# Altium footprint library Footprint-Lib-ABahlmann-IC.PcbLib: 79 footprints (part 2 of 5)
Each footprint in its own frame and in the unit in brackets; x right, y up, seen from the top. Pads: shape width x height; smd on the part's side, far side on the other; paste and mask are expansions set on the pad; w line width, h text height; cw(c..) or ccw(c..) is an arc to the next point about the centre after c.
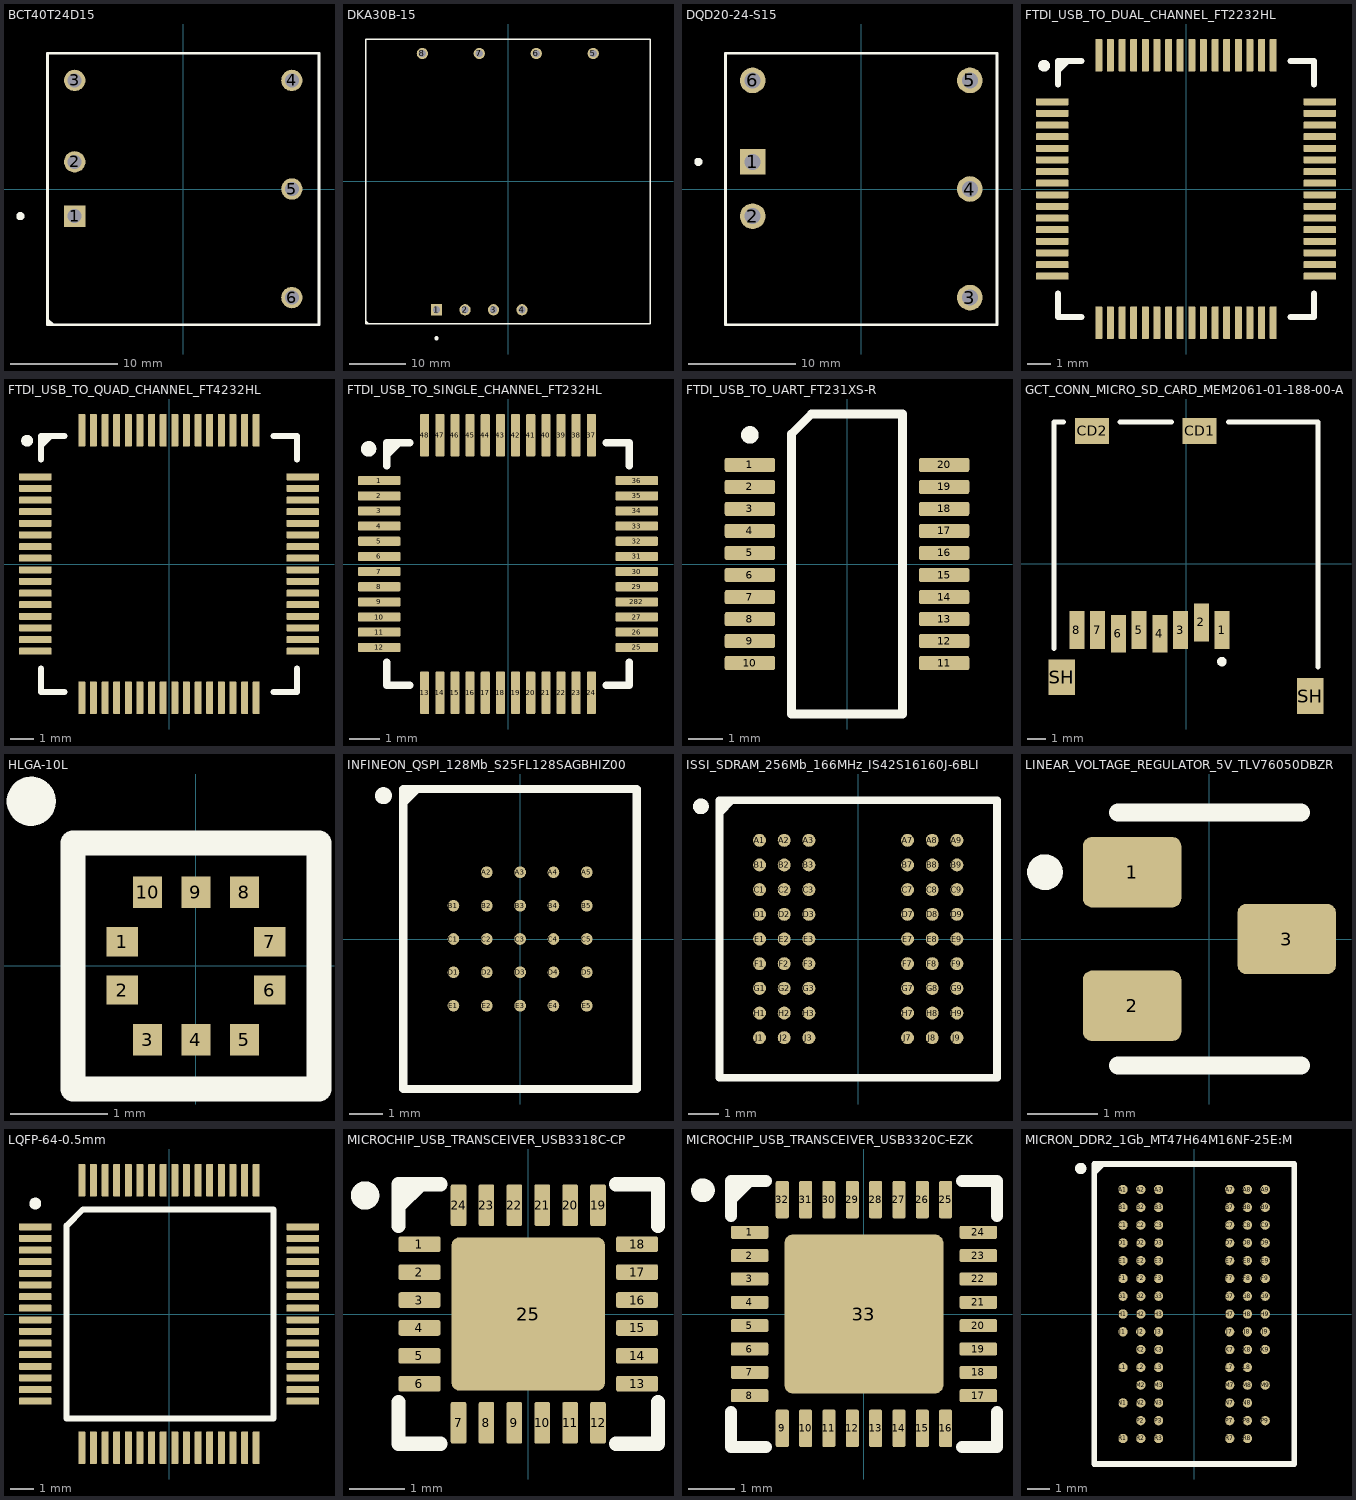
[diagram p1: the footprints below, top view; thin cyan lines are the x and y axes]

## BCT40T24D15 [mm] "Isolated Module DC DC Converter 2 Output 15V -15V 1.33A, 1.33A 9V - 36V Input"
pads (6):
  rect 2x2 hole 1.3: 1(-10.16,-2.54)
  round 2 hole 1.3: 2(-10.16,2.54) 3(-10.16,10.16) 4(10.16,10.16) 5(10.16,0) 6(10.16,-10.16)
Top Overlay:
  circle w0.508: c-15.24,-2.54 r0.127
  lines w0.254: -12.7,-12.4 -12.4,-12.7 ; -12.7,-12.2 -12.2,-12.7 ; -12.7,-12.7 12.7,-12.7 12.7,12.7 -12.7,12.7 -12.7,-12.7
3D body "BCT40T.STEP": height 10.01, standoff -5.59, extent -12.7,-12.7 12.7,12.7

## DKA30B-15 [mm] "Isolated Module DC DC Converter 2 Output 15V -15V 1A, 1A 18V - 36V Input"
pads (8):
  rect 2x2 hole 1.3: 1(-12.74,-22.9)
  round 2 hole 1.3: 2(-7.66,-22.9) 3(-2.58,-22.9) 4(2.5,-22.9) 5(15.2,22.82) 6(5.04,22.82) 7(-5.12,22.82) 8(-15.28,22.82)
Top Overlay:
  circle w0.508: c-12.74,-27.98 r0.127
  lines w0.254: -25.4,-25.1 -25.1,-25.4 ; -25.4,-24.9 -24.9,-25.4 ; -25.4,-25.4 25.4,-25.4 25.4,25.4 -25.4,25.4 -25.4,-25.4
3D body "DKA30B-15.stp": height 21.01, standoff -5.79, extent -25.4,-25.4 25.4,25.4

## DQD20-24-S15 [mm] "Isolated Module DC DC Converter 1 Output 15V 1.333A 9V - 36V Input"
pads (6):
  rect 2.4x2.4 hole 1.5: 1(-10.16,2.54)
  round 2.4 hole 1.5: 2(-10.16,-2.54) 3(10.16,-10.16) 4(10.16,0) 5(10.16,10.16) 6(-10.16,10.16)
Top Overlay:
  circle w0.508: c-15.24,2.54 r0.127
  lines w0.254: -12.7,-12.7 -12.7,12.7 12.7,12.7 12.7,-12.7 -12.7,-12.7
3D body "DQD20-24-S15.stp": height 12.51, standoff -4.08, extent -12.7,-12.7 12.7,12.7

## FTDI_USB_TO_DUAL_CHANNEL_FT2232HL [mm] "USB Bridge, USB to UART,FIFO USB 2.0 UART Interface 64-LQFP (10x10)"
pads (64):
  rrect25% 1.4x0.3 smd mask+0.05: 1(-5.75,3.75) 2(-5.75,3.25) 3(-5.75,2.75) 4(-5.75,2.25) 5(-5.75,1.75) 6(-5.75,1.25) 7(-5.75,0.75) 8(-5.75,0.25) 9(-5.75,-0.25) 10(-5.75,-0.75) 11(-5.75,-1.25) 12(-5.75,-1.75) 13(-5.75,-2.25) 14(-5.75,-2.75) 15(-5.75,-3.25) 16(-5.75,-3.75) 33(5.75,-3.75) 34(5.75,-3.25) 35(5.75,-2.75) 36(5.75,-2.25) 37(5.75,-1.75) 38(5.75,-1.25) 39(5.75,-0.75) 40(5.75,-0.25) 41(5.75,0.25) 42(5.75,0.75) 43(5.75,1.25) 44(5.75,1.75) 45(5.75,2.25) 46(5.75,2.75) 47(5.75,3.25) 48(5.75,3.75)
  rrect25% 0.3x1.4 smd mask+0.05: 17(-3.75,-5.75) 18(-3.25,-5.75) 19(-2.75,-5.75) 20(-2.25,-5.75) 21(-1.75,-5.75) 22(-1.25,-5.75) 23(-0.75,-5.75) 24(-0.25,-5.75) 25(0.25,-5.75) 26(0.75,-5.75) 27(1.25,-5.75) 28(1.75,-5.75) 29(2.25,-5.75) 30(2.75,-5.75) 31(3.25,-5.75) 32(3.75,-5.75) 49(3.75,5.75) 50(3.25,5.75) 51(2.75,5.75) 52(2.25,5.75) 53(1.75,5.75) 54(1.25,5.75) 55(0.75,5.75) 56(0.25,5.75) 57(-0.25,5.75) 58(-0.75,5.75) 59(-1.25,5.75) 60(-1.75,5.75) 61(-2.25,5.75) 62(-2.75,5.75) 63(-3.25,5.75) 64(-3.75,5.75)
Top Overlay:
  circle w0.254: c-6.1,5.3 r0.127
  lines w0.254: -5.5,-4.5 -5.5,-5.5 -4.5,-5.5 ; -5.5,4.5 -5.5,5.5 -4.5,5.5 ; -5.5,5.1 -5.1,5.5 ; 4.5,-5.5 5.5,-5.5 5.5,-4.5 ; 4.5,5.5 5.5,5.5 5.5,4.5
3D body "FT2232HL-TRAY.stp": height 1.6, standoff 0, extent -6,-6 6,6

## FTDI_USB_TO_QUAD_CHANNEL_FT4232HL [mm] "USB Bridge, USB to UART USB 2.0 UART Interface 64-LQFP (10x10)"
pads (64):
  rrect25% 1.4x0.3 smd mask+0.05: 1(-5.75,3.75) 2(-5.75,3.25) 3(-5.75,2.75) 4(-5.75,2.25) 5(-5.75,1.75) 6(-5.75,1.25) 7(-5.75,0.75) 8(-5.75,0.25) 9(-5.75,-0.25) 10(-5.75,-0.75) 11(-5.75,-1.25) 12(-5.75,-1.75) 13(-5.75,-2.25) 14(-5.75,-2.75) 15(-5.75,-3.25) 16(-5.75,-3.75) 33(5.75,-3.75) 34(5.75,-3.25) 35(5.75,-2.75) 36(5.75,-2.25) 37(5.75,-1.75) 38(5.75,-1.25) 39(5.75,-0.75) 40(5.75,-0.25) 41(5.75,0.25) 42(5.75,0.75) 43(5.75,1.25) 44(5.75,1.75) 45(5.75,2.25) 46(5.75,2.75) 47(5.75,3.25) 48(5.75,3.75)
  rrect25% 0.3x1.4 smd mask+0.05: 17(-3.75,-5.75) 18(-3.25,-5.75) 19(-2.75,-5.75) 20(-2.25,-5.75) 21(-1.75,-5.75) 22(-1.25,-5.75) 23(-0.75,-5.75) 24(-0.25,-5.75) 25(0.25,-5.75) 26(0.75,-5.75) 27(1.25,-5.75) 28(1.75,-5.75) 29(2.25,-5.75) 30(2.75,-5.75) 31(3.25,-5.75) 32(3.75,-5.75) 49(3.75,5.75) 50(3.25,5.75) 51(2.75,5.75) 52(2.25,5.75) 53(1.75,5.75) 54(1.25,5.75) 55(0.75,5.75) 56(0.25,5.75) 57(-0.25,5.75) 58(-0.75,5.75) 59(-1.25,5.75) 60(-1.75,5.75) 61(-2.25,5.75) 62(-2.75,5.75) 63(-3.25,5.75) 64(-3.75,5.75)
Top Overlay:
  circle w0.254: c-6.1,5.3 r0.127
  lines w0.254: -5.5,-4.5 -5.5,-5.5 -4.5,-5.5 ; -5.5,4.5 -5.5,5.5 -4.5,5.5 ; -5.5,5.1 -5.1,5.5 ; 4.5,-5.5 5.5,-5.5 5.5,-4.5 ; 4.5,5.5 5.5,5.5 5.5,4.5
3D body "FT4232HL-TRAY.stp": height 1.6, standoff 0, extent -6,-6 6,6

## FTDI_USB_TO_SINGLE_CHANNEL_FT232HL [mm] "USB Bridge, USB to UART,FIFO USB 2.0 UART, FIFO Interface 48-LQFP (7x7)"
pads (48):
  rrect25% 1.4x0.3 smd mask+0.05: 1(-4.25,2.75) 2(-4.25,2.25) 3(-4.25,1.75) 4(-4.25,1.25) 5(-4.25,0.75) 6(-4.25,0.25) 7(-4.25,-0.25) 8(-4.25,-0.75) 9(-4.25,-1.25) 10(-4.25,-1.75) 11(-4.25,-2.25) 12(-4.25,-2.75) 25(4.25,-2.75) 26(4.25,-2.25) 27(4.25,-1.75) 29(4.25,-0.75) 30(4.25,-0.25) 31(4.25,0.25) 32(4.25,0.75) 33(4.25,1.25) 34(4.25,1.75) 35(4.25,2.25) 36(4.25,2.75) 282(4.25,-1.25)
  rrect25% 0.3x1.4 smd mask+0.05: 13(-2.75,-4.25) 14(-2.25,-4.25) 15(-1.75,-4.25) 16(-1.25,-4.25) 17(-0.75,-4.25) 18(-0.25,-4.25) 19(0.25,-4.25) 20(0.75,-4.25) 21(1.25,-4.25) 22(1.75,-4.25) 23(2.25,-4.25) 24(2.75,-4.25) 37(2.75,4.25) 38(2.25,4.25) 39(1.75,4.25) 40(1.25,4.25) 41(0.75,4.25) 42(0.25,4.25) 43(-0.25,4.25) 44(-0.75,4.25) 45(-1.25,4.25) 46(-1.75,4.25) 47(-2.25,4.25) 48(-2.75,4.25)
Top Overlay:
  circle w0.254: c-4.6,3.8 r0.127
  lines w0.254: -4,-3.25 -4,-4 -3.25,-4 ; -4,3.25 -4,4 -3.25,4 ; -4,3.6 -3.6,4 ; 3.25,-4 4,-4 4,-3.25 ; 3.25,4 4,4 4,3.25
3D body "FT232HL-REEL.stp": height 1.6, standoff 0, extent -4.5,-4.5 4.5,4.5

## FTDI_USB_TO_UART_FT231XS-R [mm] "USB Bridge, USB to UART USB 2.0 UART Interface 20-SSOP"
pads (20):
  rrect25% 1.45x0.4 smd mask+0.025: 1(-2.8,2.858) 2(-2.8,2.223) 3(-2.8,1.588) 4(-2.8,0.953) 5(-2.8,0.318) 6(-2.8,-0.318) 7(-2.8,-0.953) 8(-2.8,-1.588) 9(-2.8,-2.223) 10(-2.8,-2.858) 11(2.8,-2.858) 12(2.8,-2.223) 13(2.8,-1.588) 14(2.8,-0.953) 15(2.8,-0.318) 16(2.8,0.318) 17(2.8,0.953) 18(2.8,1.588) 19(2.8,2.223) 20(2.8,2.858)
Top Overlay:
  circle w0.254: c-2.8,3.722 r0.127
  lines w0.254: -1.6,-4.325 1.6,-4.325 1.6,4.325 -1.025,4.325 -1.6,3.75 -1.6,-4.325
3D body "FT231XS-R.stp": height 1.75, standoff 0, extent -2.997,-4.324 2.997,4.324

## GCT_CONN_MICRO_SD_CARD_MEM2061-01-188-00-A [mm] "10 (8 + 2) Position Card Connector Secure Digital - microSD™ Surface Mount, Right Angle Gold"
pads (12):
  rect 0.8x2 smd: 1(1.915,-3.525) 2(0.815,-3.125) 3(-0.285,-3.525) 4(-1.385,-3.725) 5(-2.485,-3.525) 6(-3.585,-3.725) 7(-4.685,-3.525) 8(-5.785,-3.525)
  rect 1.8x1.4 smd: CD1(0.725,7.025) CD2(-4.975,7.025)
  rect 1.4x1.9 smd: SH(-6.575,-6.025) SH(6.575,-7.025)
Top Overlay:
  circle w0.254: c1.9,-5.2 r0.127
  lines w0.254: -7,-4.5 -7,7.5 -6.5,7.5 ; -3.5,7.5 -0.75,7.5 ; 2.25,7.5 7,7.5 7,-5.5
3D body "MEM2061-01-188-00-A.stp": height 1.94, standoff -0.01, extent -7.1,-7.675 7.1,7.775

## HLGA-10L [mm] "LPS22HHTR 10-HLGA (2.0x2.0)"
pads (10):
  rect 0.325x0.3 smd mask+0.05: 1(-0.763,0.25) 2(-0.763,-0.25) 6(0.763,-0.25) 7(0.763,0.25)
  rect 0.3x0.325 smd mask+0.05: 3(-0.5,-0.763) 4(0,-0.763) 5(0.5,-0.763) 8(0.5,0.763) 9(0,0.763) 10(-0.5,0.763)
Top Overlay:
  circle w0.254: c-1.7,1.7 r0.127
  lines w0.254: -1.27,-1.27 1.27,-1.27 1.27,1.27 -1.27,1.27 -1.27,-1.27
3D body "LPS22HBTR.STEP": height 0.81, standoff 0.01, extent -1,-1 1,1

## INFINEON_QSPI_128Mb_S25FL128SAGBHIZ00 [mm] "FLASH - NOR Memory IC 128Mbit SPI - Quad I/O 133 MHz 24-BGA (6x8)"
pads (24):
  round 0.35 smd: A2(-1,2) A3(0,2) A4(1,2) A5(2,2) B1(-2,1) B2(-1,1) B3(0,1) B4(1,1) B5(2,1) C1(-2,0) C2(-1,0) C3(0,0) C4(1,0) C5(2,0) D1(-2,-1) D2(-1,-1) D3(0,-1) D4(1,-1) D5(2,-1) E1(-2,-2) E2(-1,-2) E3(0,-2) E4(1,-2) E5(2,-2)
Top Overlay:
  circle w0.254: c-4.1,4.3 r0.127
  lines w0.254: -3.5,4.1 -3.1,4.5 ; -3.5,-4.5 -3.5,4.5 3.5,4.5 3.5,-4.5 -3.5,-4.5
3D body "BGA25C100P5X5_600X800X120.step": height 1.2, standoff 0, extent -3,-4 3,4

## ISSI_SDRAM_256Mb_166MHz_IS42S16160J-6BLI [mm] "SDRAM Memory IC 256Mbit Parallel 166 MHz 5.4 ns 54-TFBGA (8x8)"
pads (54):
  round 0.42 smd mask+0.07: A1(-3.2,3.2) A2(-2.4,3.2) A3(-1.6,3.2) A7(1.6,3.2) A8(2.4,3.2) A9(3.2,3.2) B1(-3.2,2.4) B2(-2.4,2.4) B3(-1.6,2.4) B7(1.6,2.4) B8(2.4,2.4) B9(3.2,2.4) C1(-3.2,1.6) C2(-2.4,1.6) C3(-1.6,1.6) C7(1.6,1.6) C8(2.4,1.6) C9(3.2,1.6) D1(-3.2,0.8) D2(-2.4,0.8) D3(-1.6,0.8) D7(1.6,0.8) D8(2.4,0.8) D9(3.2,0.8) E1(-3.2,0) E2(-2.4,0) E3(-1.6,0) E7(1.6,0) E8(2.4,0) E9(3.2,0) F1(-3.2,-0.8) F2(-2.4,-0.8) F3(-1.6,-0.8) F7(1.6,-0.8) F8(2.4,-0.8) F9(3.2,-0.8) G1(-3.2,-1.6) G2(-2.4,-1.6) G3(-1.6,-1.6) G7(1.6,-1.6) G8(2.4,-1.6) G9(3.2,-1.6) H1(-3.2,-2.4) H2(-2.4,-2.4) H3(-1.6,-2.4) H7(1.6,-2.4) H8(2.4,-2.4) H9(3.2,-2.4) J1(-3.2,-3.2) J2(-2.4,-3.2) J3(-1.6,-3.2) J7(1.6,-3.2) J8(2.4,-3.2) J9(3.2,-3.2)
Top Overlay:
  circle w0.254: c-5.1,4.3 r0.127
  lines w0.254: -4.5,4.1 -4.1,4.5 ; -4.5,-4.5 4.5,-4.5 4.5,4.5 -4.5,4.5 -4.5,-4.5
3D body "IS42S16160J-6BLI.stp": height 1.2, standoff 0, extent -4,-4 4,4

## LINEAR_VOLTAGE_REGULATOR_5V_TLV76050DBZR [mm] "Linear Voltage Regulator IC Positive Fixed 1 Output 5V 100mA SOT"
pads (3):
  rrect25% 1.4x1 smd: 1(-1.1,0.95) 2(-1.1,-0.95) 3(1.1,0)
Top Overlay:
  circle w0.254: c-2.34,0.95 r0.127
  lines w0.254: -1.3,-1.8 1.3,-1.8 ; -1.3,1.8 1.3,1.8
3D body "SOT23-3.stp": height 1.1, standoff 0, extent -1.25,-1.5 1.25,1.5

## LQFP-64-0.5mm [mm] "LQFP, 64-Leads, Body 10.00x10.00mm, Pitch 0.50mm"
pads (64):
  rrect25% 1.4x0.3 smd mask+0.05: 1(-5.75,3.75) 2(-5.75,3.25) 3(-5.75,2.75) 4(-5.75,2.25) 5(-5.75,1.75) 6(-5.75,1.25) 7(-5.75,0.75) 8(-5.75,0.25) 9(-5.75,-0.25) 10(-5.75,-0.75) 11(-5.75,-1.25) 12(-5.75,-1.75) 13(-5.75,-2.25) 14(-5.75,-2.75) 15(-5.75,-3.25) 16(-5.75,-3.75) 33(5.75,-3.75) 34(5.75,-3.25) 35(5.75,-2.75) 36(5.75,-2.25) 37(5.75,-1.75) 38(5.75,-1.25) 39(5.75,-0.75) 40(5.75,-0.25) 41(5.75,0.25) 42(5.75,0.75) 43(5.75,1.25) 44(5.75,1.75) 45(5.75,2.25) 46(5.75,2.75) 47(5.75,3.25) 48(5.75,3.75)
  rrect25% 0.3x1.4 smd mask+0.05: 17(-3.75,-5.75) 18(-3.25,-5.75) 19(-2.75,-5.75) 20(-2.25,-5.75) 21(-1.75,-5.75) 22(-1.25,-5.75) 23(-0.75,-5.75) 24(-0.25,-5.75) 25(0.25,-5.75) 26(0.75,-5.75) 27(1.25,-5.75) 28(1.75,-5.75) 29(2.25,-5.75) 30(2.75,-5.75) 31(3.25,-5.75) 32(3.75,-5.75) 49(3.75,5.75) 50(3.25,5.75) 51(2.75,5.75) 52(2.25,5.75) 53(1.75,5.75) 54(1.25,5.75) 55(0.75,5.75) 56(0.25,5.75) 57(-0.25,5.75) 58(-0.75,5.75) 59(-1.25,5.75) 60(-1.75,5.75) 61(-2.25,5.75) 62(-2.75,5.75) 63(-3.25,5.75) 64(-3.75,5.75)
Top Overlay:
  circle w0.254: c-5.75,4.75 r0.127
  lines w0.254: -4.4,-4.5 4.5,-4.5 4.5,4.5 -3.7,4.5 -4.4,3.8 -4.4,-4.5
3D body "LQFP64-GRID-0MM5.STEP": height 1.6, standoff 0, extent -6,-6 6,6

## MICROCHIP_USB_TRANSCEIVER_USB3318C-CP [mm] "Transceiver Half USB 2.0 24-QFN (4x4)"
pads (25):
  rrect25% 0.75x0.28 smd mask+0.05: 1(-1.95,1.25) 2(-1.95,0.75) 3(-1.95,0.25) 4(-1.95,-0.25) 5(-1.95,-0.75) 6(-1.95,-1.25) 13(1.95,-1.25) 14(1.95,-0.75) 15(1.95,-0.25) 16(1.95,0.25) 17(1.95,0.75) 18(1.95,1.25)
  rrect25% 0.28x0.75 smd mask+0.05: 7(-1.25,-1.95) 8(-0.75,-1.95) 9(-0.25,-1.95) 10(0.25,-1.95) 11(0.75,-1.95) 12(1.25,-1.95) 19(1.25,1.95) 20(0.75,1.95) 21(0.25,1.95) 22(-0.25,1.95) 23(-0.75,1.95) 24(-1.25,1.95)
  rrect10% 2.75x2.75 smd mask+0.05: 25(0,0)
Top Overlay:
  circle w0.254: c-2.925,2.125 r0.127
  lines w0.254: -2.325,-1.575 -2.325,-2.325 -1.575,-2.325 ; -2.325,1.575 -2.325,2.325 -1.575,2.325 ; -2.325,1.925 -1.925,2.325 ; 1.575,-2.325 2.325,-2.325 2.325,-1.575 ; 1.575,2.325 2.325,2.325 2.325,1.575
3D body "USB3318C-CP-TR.stp": height 1, standoff 0, extent -2.05,-2.05 2.05,2.05

## MICROCHIP_USB_TRANSCEIVER_USB3320C-EZK [mm] "1/1 Transceiver Half USB 2.0 32-QFN (5x5)"
pads (33):
  rrect25% 0.8x0.28 smd mask+0.05: 1(-2.45,1.75) 2(-2.45,1.25) 3(-2.45,0.75) 4(-2.45,0.25) 5(-2.45,-0.25) 6(-2.45,-0.75) 7(-2.45,-1.25) 8(-2.45,-1.75) 17(2.45,-1.75) 18(2.45,-1.25) 19(2.45,-0.75) 20(2.45,-0.25) 21(2.45,0.25) 22(2.45,0.75) 23(2.45,1.25) 24(2.45,1.75)
  rrect25% 0.28x0.8 smd mask+0.05: 9(-1.75,-2.45) 10(-1.25,-2.45) 11(-0.75,-2.45) 12(-0.25,-2.45) 13(0.25,-2.45) 14(0.75,-2.45) 15(1.25,-2.45) 16(1.75,-2.45) 25(1.75,2.45) 26(1.25,2.45) 27(0.75,2.45) 28(0.25,2.45) 29(-0.25,2.45) 30(-0.75,2.45) 31(-1.25,2.45) 32(-1.75,2.45)
  rrect10% 3.4x3.4 smd mask+0.05: 33(0,0)
Top Overlay:
  circle w0.254: c-3.45,2.65 r0.127
  lines w0.254: -2.85,-2.1 -2.85,-2.85 -2.1,-2.85 ; -2.85,2.1 -2.85,2.85 -2.1,2.85 ; -2.85,2.45 -2.45,2.85 ; 2.1,-2.85 2.85,-2.85 2.85,-2.1 ; 2.1,2.85 2.85,2.85 2.85,2.1
3D body "USB3320C-EZK-TR.stp": height 1, standoff 0, extent -2.55,-2.55 2.55,2.55

## MICRON_DDR2_1Gb_MT47H64M16NF-25E:M [mm] "SDRAM - DDR2 Memory IC 1Gbit Parallel 400 MHz 400 ps 84-FBGA (8x12.5)"
pads (84):
  round 0.42 smd mask+0.05: A1(-3.2,5.6) A2(-2.4,5.6) A3(-1.6,5.6) A7(1.6,5.6) A8(2.4,5.6) A9(3.2,5.6) B1(-3.2,4.8) B2(-2.4,4.8) B3(-1.6,4.8) B7(1.6,4.8) B8(2.4,4.8) B9(3.2,4.8) C1(-3.2,4) C2(-2.4,4) C3(-1.6,4) C7(1.6,4) C8(2.4,4) C9(3.2,4) D1(-3.2,3.2) D2(-2.4,3.2) D3(-1.6,3.2) D7(1.6,3.2) D8(2.4,3.2) D9(3.2,3.2) E1(-3.2,2.4) E2(-2.4,2.4) E3(-1.6,2.4) E7(1.6,2.4) E8(2.4,2.4) E9(3.2,2.4) F1(-3.2,1.6) F2(-2.4,1.6) F3(-1.6,1.6) F7(1.6,1.6) F8(2.4,1.6) F9(3.2,1.6) G1(-3.2,0.8) G2(-2.4,0.8) G3(-1.6,0.8) G7(1.6,0.8) G8(2.4,0.8) G9(3.2,0.8) H1(-3.2,0) H2(-2.4,0) H3(-1.6,0) H7(1.6,0) H8(2.4,0) H9(3.2,0) J1(-3.2,-0.8) J2(-2.4,-0.8) J3(-1.6,-0.8) J7(1.6,-0.8) J8(2.4,-0.8) J9(3.2,-0.8) K2(-2.4,-1.6) K3(-1.6,-1.6) K7(1.6,-1.6) K8(2.4,-1.6) K9(3.2,-1.6) L1(-3.2,-2.4) L2(-2.4,-2.4) L3(-1.6,-2.4) L7(1.6,-2.4) L8(2.4,-2.4) M2(-2.4,-3.2) M3(-1.6,-3.2) M7(1.6,-3.2) M8(2.4,-3.2) M9(3.2,-3.2) N1(-3.2,-4) N2(-2.4,-4) N3(-1.6,-4) N7(1.6,-4) N8(2.4,-4) P2(-2.4,-4.8) P3(-1.6,-4.8) P7(1.6,-4.8) P8(2.4,-4.8) P9(3.2,-4.8) R1(-3.2,-5.6) R2(-2.4,-5.6) R3(-1.6,-5.6) R7(1.6,-5.6) R8(2.4,-5.6)
Top Overlay:
  circle w0.254: c-5.1,6.55 r0.127
  lines w0.254: -4.5,6.35 -4.1,6.75 ; -4.5,-6.75 4.5,-6.75 4.5,6.75 -4.5,6.75 -4.5,-6.75
3D body "MT47H64M16NF-25E_M.stp": height 1.2, standoff 0, extent -4,-6.25 4,6.25